# EAGLE library part MCP3422 (library Ai_IC)
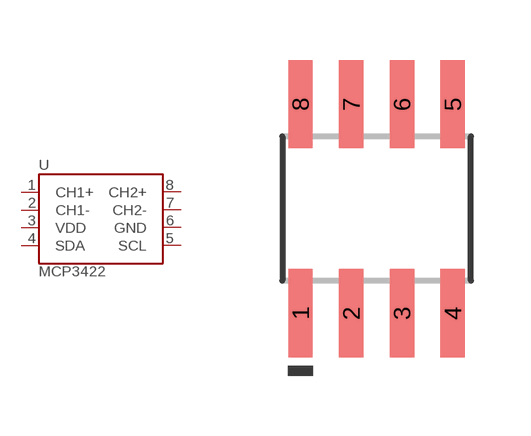
[diagram p16: symbol with the pads of SO08; footprint SO08]

Designator prefix U

## MCP3422  [SO08]
1  CH1+
2  CH1-
3  VDD
4  SDA
5  SCL
6  GND
7  CH2-
8  CH2+

## Footprint SO08 (pad centres in mm)
smd 0.61 x 2.21: 1 -1.905,-2.616; 2 -0.635,-2.616; 3 0.635,-2.616; 4 1.905,-2.616; 5 1.905,2.616; 6 0.635,2.616; 7 -0.635,2.616; 8 -1.905,2.616